# Altium schematic symbol library RelayControl.SchLib: 6 symbols
Pins are listed as number, name and electrical type; pins without a type are passive.

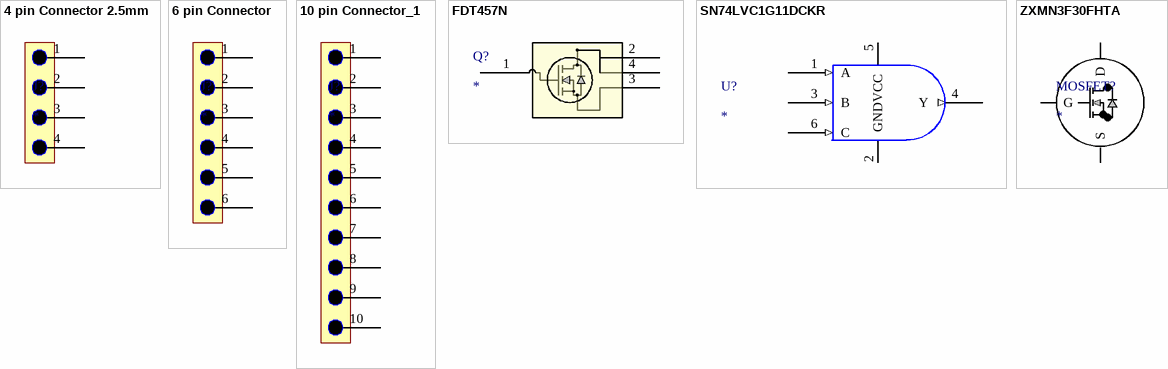
[diagram p0: symbols 4 pin Connector 2.5mm to ZXMN3F30FHTA]

## 4 pin Connector 2.5mm
designator J?
footprint 4 PIN CONNECTOR 2.5MM
pins: 1, 2, 3, 4 3

## 6 pin Connector
designator J?
footprint PLEASEWORK - 6 Pin connector 2.5mm spacing
pins: 1, 2, 3, 4 3, 5, 6

## 10 pin Connector_1
designator J?
footprint 10 Pin connector 2.5mm spacing
pins: 1, 2, 3, 4 3, 5, 6, 7, 8, 9, 10

## FDT457N
designator Q?
No Description Available; Mfr_Name: onsemi; Type: Current Regulation - Diodes, Transistors; RefDes: RefDes
footprint FDT457N MOSFET
pins: 1, 2, 3, 4

## SN74LVC1G11DCKR
designator U?
No Description Available; Mfr_Name: Texas Instruments; RefDes: RefDes; Type: Type
footprint AND GATE
pins: 1 A (in), 2 GND (power), 3 B (in), 4 Y (out), 5 VCC (power), 6 C (in)

## ZXMN3F30FHTA
designator MOSFET?
No Description Available; Mfr_Name: Diodes Inc
footprint SOT23_ZXMN3F30FH_DIO
pins: 1 G, 2 S, 3 D